# Altium footprint library RE200B.PcbLib: 1 footprints
Each footprint in its own frame and in the unit in brackets; x right, y up, seen from the top. Pads: shape width x height; smd on the part's side, far side on the other; paste and mask are expansions set on the pad; w line width, h text height; cw(c..) or ccw(c..) is an arc to the next point about the centre after c.
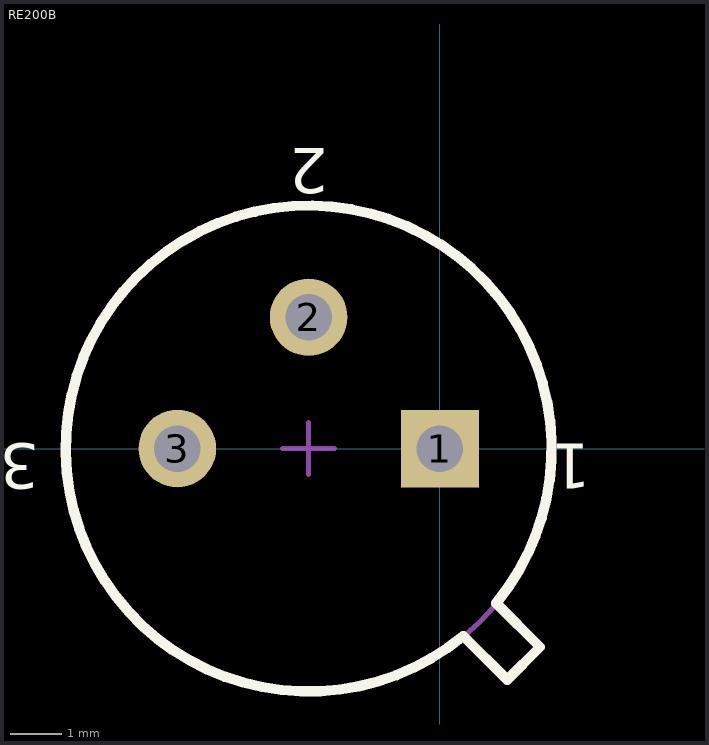
[diagram p0: the footprint, top view; thin cyan lines are the x and y axes]

## RE200B [mm]
pads (3):
  rect 1.5x1.5 hole 0.9: 1(0,0)
  round 1.5 hole 0.9: 2(-2.54,2.54) 3(-5.08,0)
Top Overlay:
  lines w0.2: 0.45,-3.626 cw(c-2.54,0) 1.086,-2.99 1.935,-3.838 1.298,-4.475 0.45,-3.626
  text "3" at -7.747,0.381 h1.5
  text "2" at -2.159,6.096 h1.5
  text "1" at 2.921,0.381 h1.5
Mechanical 13:
  circle w0.1: c-2.54,0 r4.713
Mechanical 15:
  circle w0.1: c-2.54,0 r4.713
  lines w0.1: -3.04,0 -2.04,0 ; -2.54,-0.5 -2.54,0.5
3D body: height 6.6, standoff -11.82, extent -7.24,-4.573 2.147,4.827